# Altium footprint library MY_LIB.PcbLib: 129 footprints (part 8 of 9)
Each footprint in its own frame and in the unit in brackets; x right, y up, seen from the top. Pads: shape width x height; smd on the part's side, far side on the other; paste and mask are expansions set on the pad; w line width, h text height; cw(c..) or ccw(c..) is an arc to the next point about the centre after c.
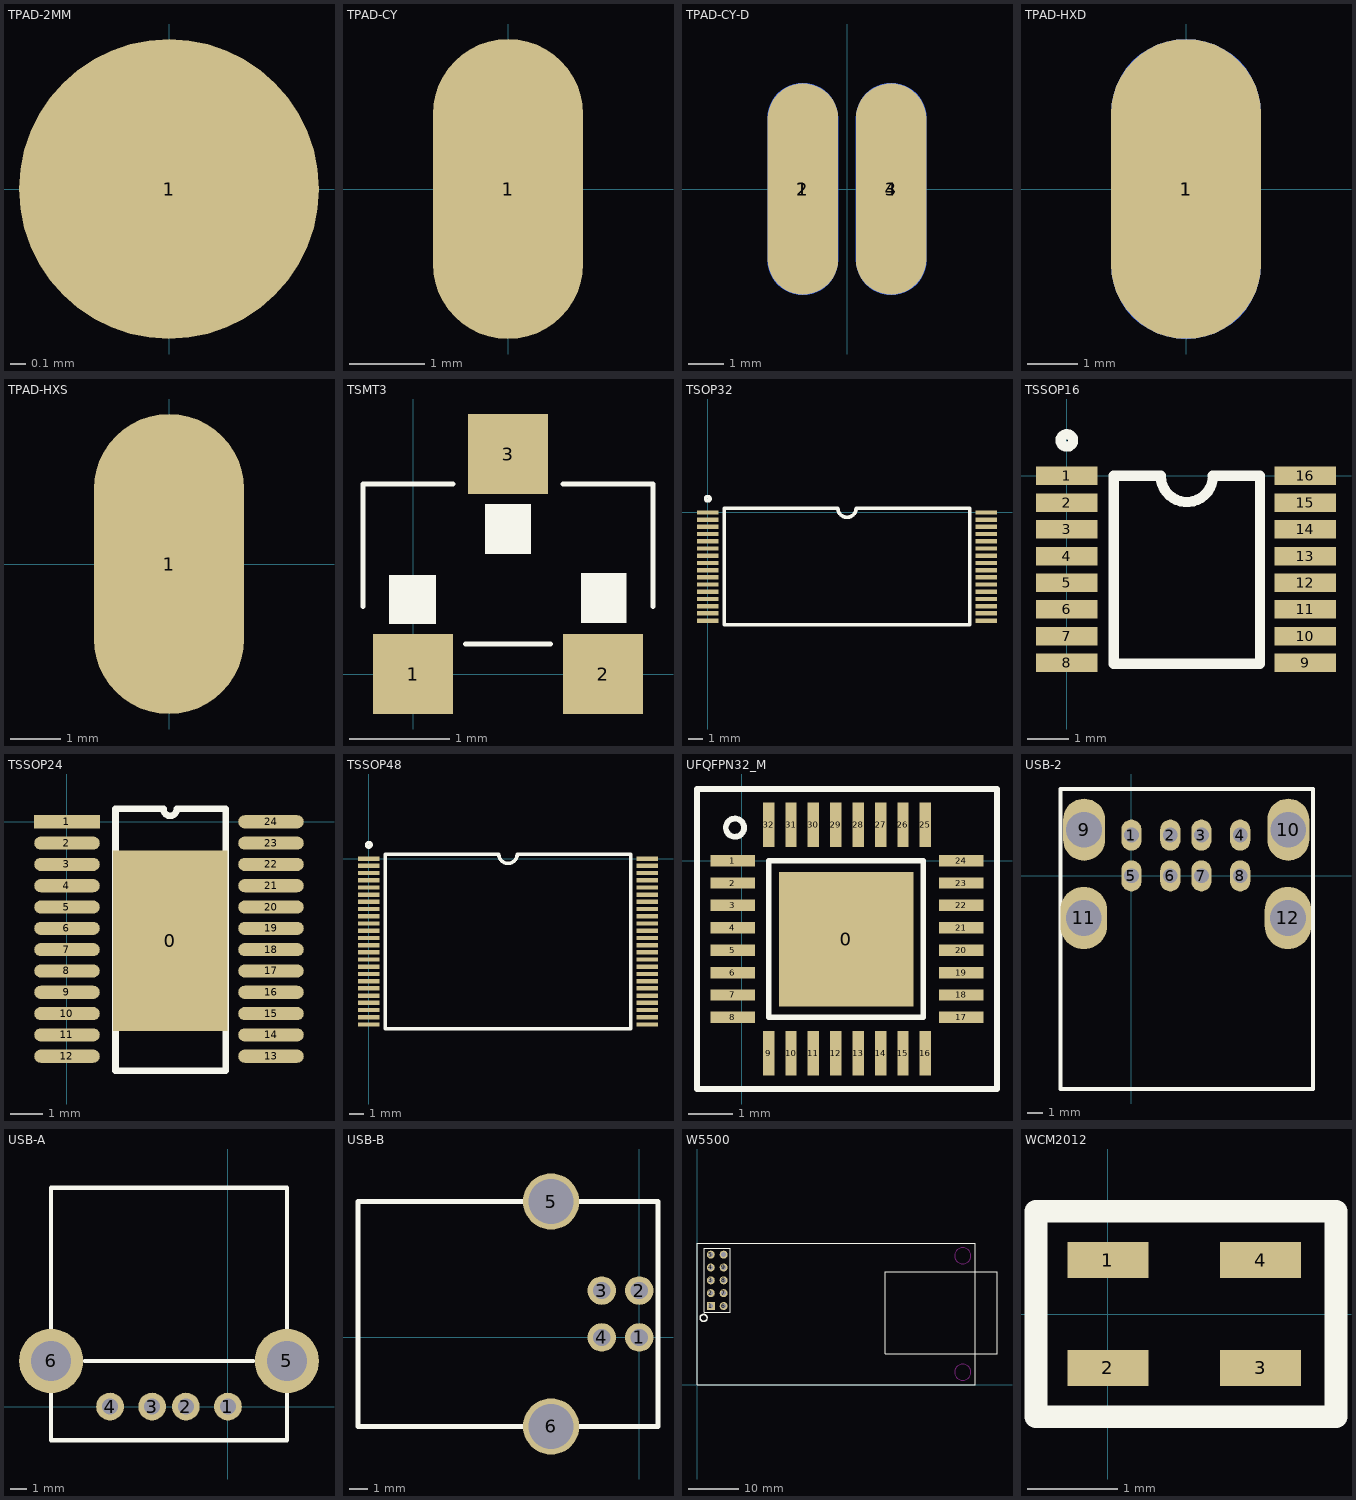
[diagram p7: the footprints below, top view; thin cyan lines are the x and y axes]

## TPAD-2MM [mm]
pads (1):
  round 2 smd: 1(0,0)

## TPAD-CY [mm]
pads (1):
  oval 2x4 smd: 1(0,0)

## TPAD-CY-D [mm]
pads (4):
  oval 2x6 smd: 1(-1.25,0) 4(1.25,0)
  oval 2x6 smd far side: 2(-1.25,0) 3(1.25,0)

## TPAD-HXD [mm]
pads (2):
  oval 3x6 smd mask+0.102: 1(0,0)
  oval 3x6 smd far side mask+0.102: 1(0,0)

## TPAD-HXS [mm]
pads (1):
  oval 3x6 smd mask+0.102: 1(0,0)

## TSMT3 [mm]
pads (3):
  rect 0.8x0.8 smd: 1(0,0) 2(1.9,0) 3(0.95,2.2)
Top Overlay:
  rectangle: 1.682,0.51 2.133,1.01
  rectangle: -0.239,0.5 0.231,0.99
  rectangle: 0.721,1.2 1.182,1.7
  lines w0.051: -0.5,0.675 -0.5,1.9 0.4,1.9 ; 0.525,0.3 1.375,0.3 ; 1.5,1.9 2.4,1.9 2.4,0.675

## TSOP32 [mm]
pads (32):
  rect 1.5x0.3 smd: 1(0,0) 2(0,-0.5) 3(0,-1) 4(0,-1.5) 5(0,-2) 6(0,-2.5) 7(0,-3) 8(0,-3.5) 9(0,-4) 10(0,-4.5) 11(0,-5) 12(0,-5.5) 13(0,-6) 14(0,-6.5) 15(0,-7) 16(0,-7.5) 17(19.3,-7.5) 18(19.3,-7) 19(19.3,-6.5) 20(19.3,-6) 21(19.3,-5.5) 22(19.3,-5) 23(19.3,-4.5) 24(19.3,-4) 25(19.3,-3.5) 26(19.3,-3) 27(19.3,-2.5) 28(19.3,-2) 29(19.3,-1.5) 30(19.3,-1) 31(19.3,-0.5) 32(19.3,0)
Top Overlay:
  circle w0.25: c0,0.95 r0.15
  lines w0.25: 1.15,-7.8 18.15,-7.8 18.15,0.3 10.285,0.3 cw(c9.65,0.3) 9.015,0.3 1.15,0.3 1.15,-7.8

## TSSOP16 [mm]
height 1.2
pads (16):
  rect 1.5x0.45 smd: 1(0,0) 2(0,-0.65) 3(0,-1.3) 4(0,-1.95) 5(0,-2.6) 6(0,-3.25) 7(0,-3.9) 8(0,-4.55) 9(5.8,-4.55) 10(5.8,-3.9) 11(5.8,-3.25) 12(5.8,-2.6) 13(5.8,-1.95) 14(5.8,-1.3) 15(5.8,-0.65) 16(5.8,0)
Top Overlay:
  circle w0.25: c0,0.864 r0.15
  lines w0.25: 1.143,0 1.143,-4.572 4.699,-4.572 4.699,0 ; 2.286,0 ccw(c2.921,0) 3.556,0
  lines w0.254: 1.143,0 2.286,0 ; 3.556,0 4.699,0

## TSSOP24 [mm]
pads (25):
  rect 3.5x5.5 smd: 0(3.15,-3.632)
  rect 2x0.4 smd: 1(0,0)
  oval 2x0.4 smd: 2(0,-0.65) 3(0,-1.3) 4(0,-1.95) 5(0,-2.6) 6(0,-3.25) 7(0,-3.9) 8(0,-4.55) 9(0,-5.2) 10(0,-5.85) 11(0,-6.5) 12(0,-7.15) 13(6.223,-7.15) 14(6.223,-6.5) 15(6.223,-5.85) 16(6.223,-5.2) 17(6.223,-4.55) 18(6.223,-3.9) 19(6.223,-3.25) 20(6.223,-2.6) 21(6.223,-1.95) 22(6.223,-1.3) 23(6.223,-0.65) 24(6.223,0)
Top Overlay:
  lines w0.2: 2.944,0.4 1.479,0.4 1.479,-7.6 4.844,-7.6 4.844,0.4 3.344,0.4 ; 2.946,0.381 ccw(c3.146,0.381) 3.346,0.381

## TSSOP48 [mm]
pads (48):
  rect 1.5x0.3 smd: 1(0,0) 2(0,-0.5) 3(0,-1) 4(0,-1.5) 5(0,-2) 6(0,-2.5) 7(0,-3) 8(0,-3.5) 9(0,-4) 10(0,-4.5) 11(0,-5) 12(0,-5.5) 13(0,-6) 14(0,-6.5) 15(0,-7) 16(0,-7.5) 17(0,-8) 18(0,-8.5) 19(0,-9) 20(0,-9.5) 21(0,-10) 22(0,-10.5) 23(0,-11) 24(0,-11.5) 25(19.3,-11.5) 26(19.3,-11) 27(19.3,-10.5) 28(19.3,-10) 29(19.3,-9.5) 30(19.3,-9) 31(19.3,-8.5) 32(19.3,-8) 33(19.3,-7.5) 34(19.3,-7) 35(19.3,-6.5) 36(19.3,-6) 37(19.3,-5.5) 38(19.3,-5) 39(19.3,-4.5) 40(19.3,-4) 41(19.3,-3.5) 42(19.3,-3) 43(19.3,-2.5) 44(19.3,-2) 45(19.3,-1.5) 46(19.3,-1) 47(19.3,-0.5) 48(19.3,0)
Top Overlay:
  circle w0.25: c0,0.95 r0.15
  lines w0.25: 1.15,-11.8 18.15,-11.8 18.15,0.3 10.285,0.3 cw(c9.65,0.3) 9.015,0.3 1.15,0.3 1.15,-11.8

## UFQFPN32_M [mm]
pads (33):
  rect 3x3 smd: 0(2.337,-1.753)
  rect 1x0.254 smd: 1(-0.2,0) 2(-0.2,-0.5) 3(-0.2,-1) 4(-0.2,-1.5) 5(-0.2,-2) 6(-0.2,-2.5) 7(-0.2,-3) 8(-0.2,-3.5) 17(4.9,-3.5) 18(4.9,-3) 19(4.9,-2.5) 20(4.9,-2) 21(4.9,-1.5) 22(4.9,-1) 23(4.9,-0.5) 24(4.9,0)
  rect 0.254x1 smd: 9(0.6,-4.3) 10(1.1,-4.3) 11(1.6,-4.3) 12(2.1,-4.3) 13(2.6,-4.3) 14(3.1,-4.3) 15(3.6,-4.3) 16(4.1,-4.3) 25(4.1,0.8) 26(3.6,0.8) 27(3.1,0.8) 28(2.6,0.8) 29(2.1,0.8) 30(1.6,0.8) 31(1.1,0.8) 32(0.6,0.8)
Top Overlay:
  circle w0.127: c-0.152,0.737 r0.203
  lines w0.127: -1,-5.1 -1,1.6 5.7,1.6 5.7,-5.1 -1,-5.1 ; 0.6,-3.5 0.6,0 4.05,0 4.05,-3.5 0.6,-3.5

## USB-2 [mm]
pads (12):
  oval 1.3x2 hole 0.95: 1(0,2.62) 2(2.5,2.62) 3(4.5,2.62) 4(7,2.62) 5(0,0) 6(2.5,0) 7(4.5,0) 8(7,0)
  oval 2.7x4 hole 2.3: 9(-3.048,2.97) 10(10.092,2.97)
  oval 3x4 hole 2.3: 11(-3.07,-2.71) 12(10.07,-2.71)
Top Overlay:
  lines w0.254: -4.572,-13.716 -4.572,5.588 11.684,5.588 11.684,-13.716 -4.572,-13.716

## USB-A [mil]
pads (6):
  round 65 hole 37: 1(0,0) 2(-98.43,0) 3(-177.17,0) 4(-275.6,0)
  round 150 hole 93: 5(137.8,106.69) 6(-413.39,106.69)
Top Overlay:
  lines w10: -334.65,106.69 59.06,106.69 ; -413.39,-78.74 -413.39,511.81 137.8,511.81 137.8,-78.74 -413.39,-78.74

## USB-B [mm]
pads (6):
  round 1.524 hole 0.92: 1(0,0) 2(0,2.5) 3(-2,2.5) 4(-2,0)
  round 3 hole 2.4: 5(-4.7,7.25) 6(-4.7,-4.75)
Top Overlay:
  lines w0.254: -15,-4.75 -15,7.25 1,7.25 1,-4.75 -15,-4.75

## W5500 [mil]
pads (10):
  rect 62x62 hole 38: 1(107.2,613.03)
  round 62 hole 38: 2(107.2,713.03) 3(107.2,813.03) 4(107.2,913.03) 5(107.2,1013.03) 6(207.21,613.03) 7(207.21,713.03) 8(207.21,813.03) 9(207.21,913.03) 10(207.21,1013.03)
Top Overlay:
  circle w10: c51.69,521 r27.31
  lines w5: 0,0 2165.35,0 2165.35,1102.36 0,1102.36 0,0 ; 1465,242.99 2333.27,242.99 2333.27,879.02 1465,879.02 1465,242.99
  lines w7.87: 57.21,562.99 257.21,562.99 257.21,1062.99 57.21,1062.99 57.21,562.99
Keep-Out Layer:
  circle w5: c2066.93,1003.94 r62.99
  circle w5: c2066.93,98.43 r62.99

## WCM2012 [mm]
pads (4):
  rect 0.9x0.4 smd: 1(0,0.6) 2(0,-0.6) 3(1.7,-0.6) 4(1.7,0.6)
Top Overlay:
  lines w0.254: -0.8,-1.143 2.54,-1.143 2.54,1.143 -0.8,1.143 -0.8,-1.143